# EAGLE library part 6E17C-009P-AJ-121 (library con-subd)
SUB-D MALE 9-PIN
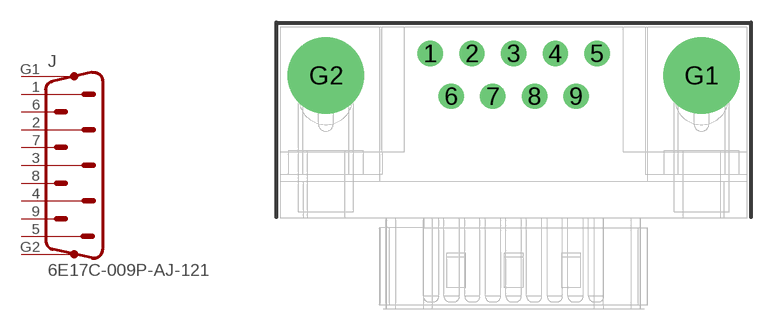
[diagram p100: symbol with the pads of 6E17C-009P-AJ-121; footprint 6E17C-009P-AJ-121]

Designator prefix J

## 6E17C-009P-AJ-121  [6E17C-009P-AJ-121]
1  1  pas
2  2  pas
3  3  pas
4  4  pas
5  5  pas
6  6  pas
7  7  pas
8  8  pas
9  9  pas
G1  G1  pas
G2  G2  pas

## Footprint 6E17C-009P-AJ-121 (pad centres in mm)
DB-9 MALE
drill 1.016 pad 1.676: 1 -5.537,2.84; 2 -2.769,2.84; 3 0,2.84; 4 2.769,2.84; 5 5.537,2.84; 6 -4.153,0; 7 -1.384,0; 8 1.384,0; 9 4.153,0
drill 3.251 pad 5.08: G1 12.459,1.384; G2 -12.459,1.384